# EAGLE library part MAX232_BREAKOUT (library misc_luke)
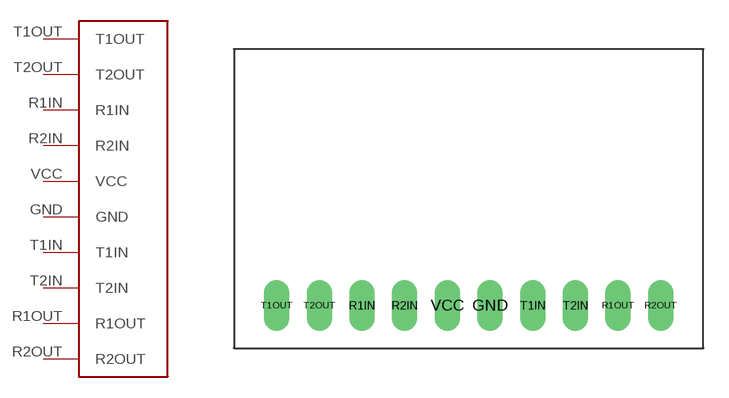
[diagram p1: symbol with the pads of MAX232_BREAKOUT; footprint MAX232_BREAKOUT]

Designator prefix -

## MAX232_BREAKOUT  [MAX232_BREAKOUT]
GND  GND
R1IN  R1IN
R1OUT  R1OUT
R2IN  R2IN
R2OUT  R2OUT
T1IN  T1IN
T1OUT  T1OUT
T2IN  T2IN
T2OUT  T2OUT
VCC  VCC

## Footprint MAX232_BREAKOUT (pad centres in mm)
drill 1.016 long: GND 12.7,0; R1IN 5.08,0; R1OUT 20.32,0; R2IN 7.62,0; R2OUT 22.86,0; T1IN 15.24,0; T1OUT 0,0; T2IN 17.78,0; T2OUT 2.54,0; VCC 10.16,0